# Altium footprint library 高通MSM8916 原理图+PCB Layout_QRD8916_2-4-2_half type_main board_V1.01.PcbLib: 111 footprints (part 1 of 7)
Each footprint in its own frame and in the unit in brackets; x right, y up, seen from the top. Pads: shape width x height; smd on the part's side, far side on the other; paste and mask are expansions set on the pad; w line width, h text height; cw(c..) or ccw(c..) is an arc to the next point about the centre after c.
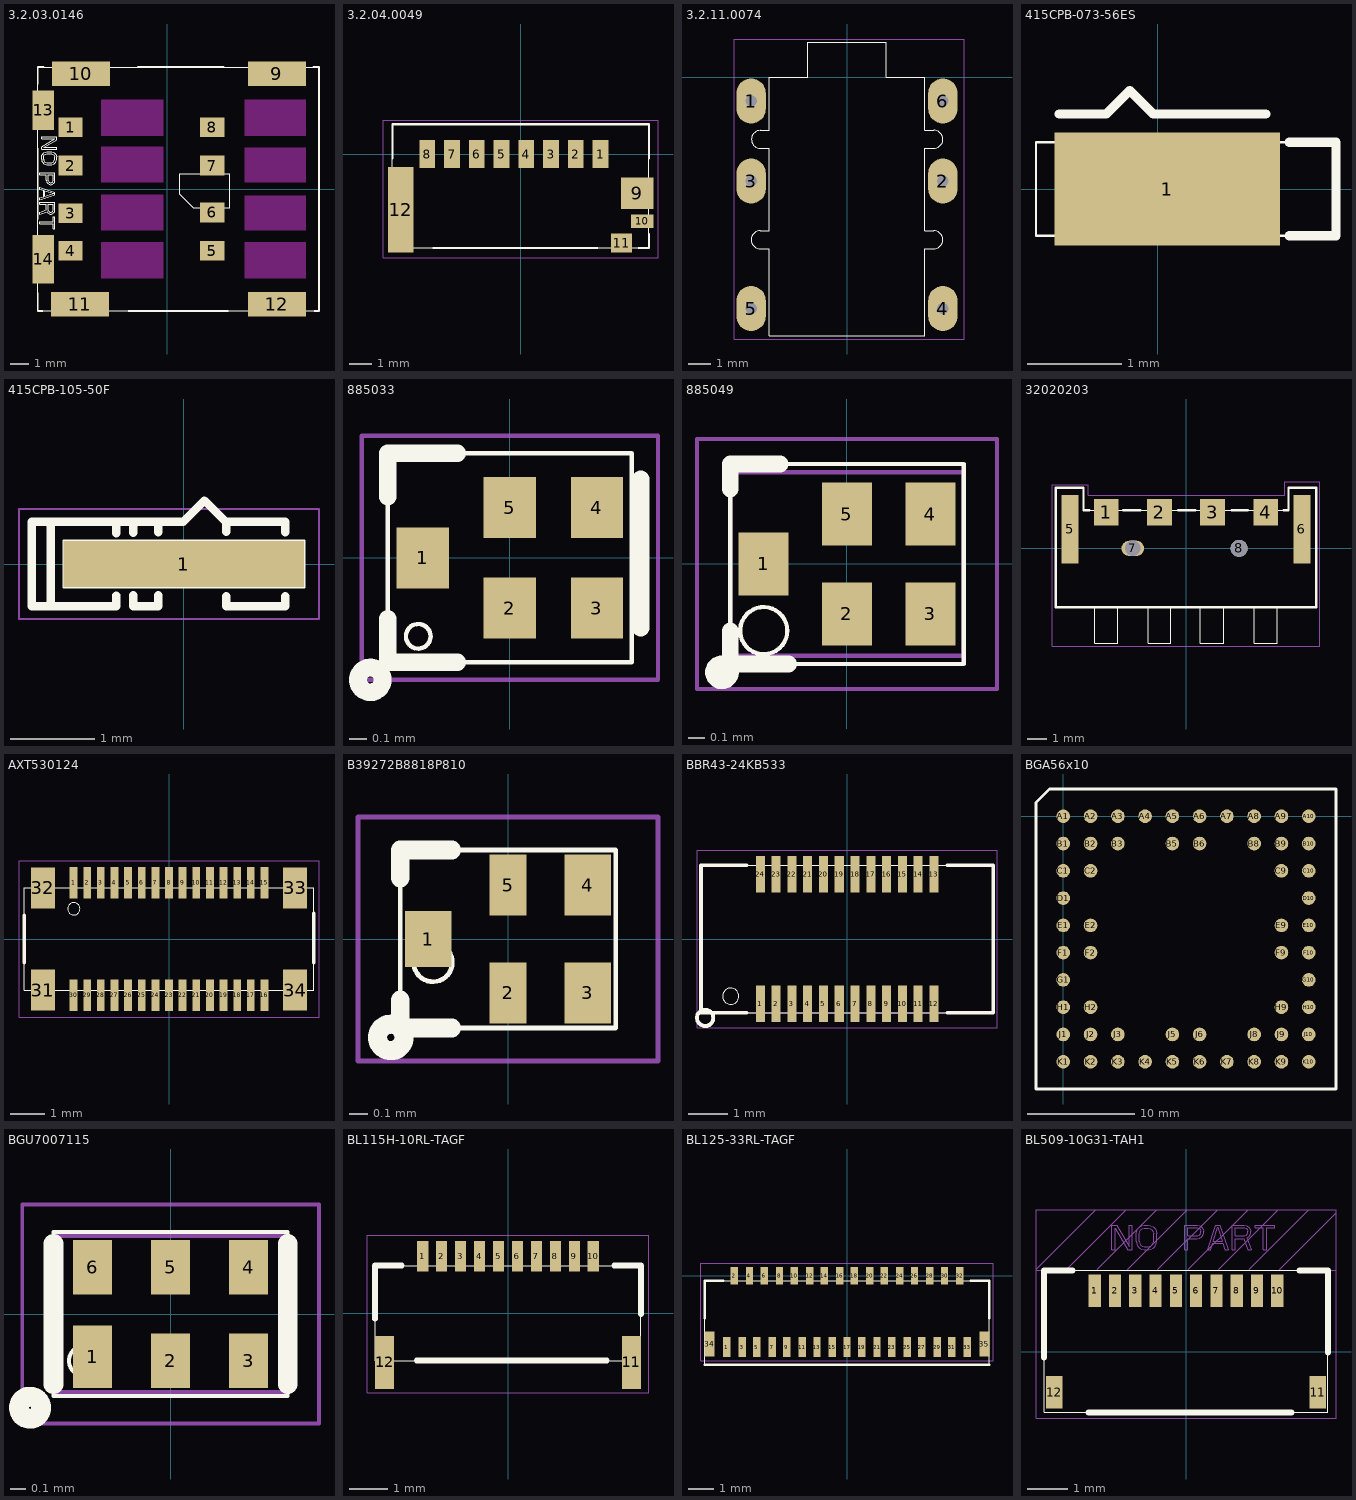
[diagram p0: the footprints below, top view; thin cyan lines are the x and y axes]

## 3.2.03.0146 [mm]
height 1.45
pads (14):
  rect 1.3x1.05 smd paste-0.025 mask+0.05: 1(-5.15,3.3) 2(-5.15,1.25) 3(-5.15,-1.3) 4(-5.15,-3.3) 5(2.4,-3.3) 6(2.4,-1.25) 7(2.4,1.25) 8(2.4,3.3)
  rect 3.1x1.3 smd mask+0.05: 9(5.85,6.15) 10(-4.6,6.15) 11(-4.65,-6.15) 12(5.85,-6.15)
  rect 1.15x2.1 smd mask+0.05: 13(-6.6,4.2)
  rect 1.15x2.6 smd mask+0.05: 14(-6.6,-3.75)
Top Layer keep-out:
  region: -3.5,2.25 -0.2,2.25 -0.2,0.35 -3.5,0.35
  region: -3.5,-0.3 -0.2,-0.3 -0.2,-2.2 -3.5,-2.2
  region: -3.5,-2.85 -0.2,-2.85 -0.2,-4.75 -3.5,-4.75
  region: 4.15,2.2 7.4,2.2 7.4,0.35 4.15,0.35
  region: 4.15,-0.35 7.4,-0.35 7.4,-2.2 4.15,-2.2
  region: 4.15,-2.85 7.4,-2.85 7.4,-4.75 4.15,-4.75
  region: -3.5,4.75 -0.2,4.75 -0.2,2.85 -3.5,2.85
  region: 4.15,4.75 7.4,4.75 7.4,2.85 4.15,2.85
Top Overlay:
  lines w0.025: -6.9,-6.5 -6.9,6.5 8.1,6.5 8.1,-6.5 -6.9,-6.5 ; -6.796,-1.858 -6.073,-1.858 -6.073,-2.128 -5.986,-2.128 -5.986,-1.487 -6.073,-1.487 -6.073,-1.757 -6.796,-1.757 -6.796,-1.858 ; -6.796,-1.352 -6.4,-1.2 -6.366,-1.268 -6.297,-1.318 -6.245,-1.335 -6.176,-1.335 -6.124,-1.318 -6.055,-1.268 -6.004,-1.2 -5.986,-1.116 -5.986,-0.711 -6.796,-0.711 -6.796,-0.812 -6.434,-0.812 -6.434,-1.099 -6.796,-1.234 -6.796,-1.352 ; -6.796,-0.576 -5.986,-0.306 -5.986,-0.171 -6.796,0.099 -6.796,-0.002 -6.59,-0.069 -6.59,-0.407 -6.796,-0.474 -6.796,-0.576 ; -6.796,0.757 -6.434,0.757 -6.434,0.454 -6.417,0.369 -6.366,0.302 -6.297,0.251 -6.245,0.234 -6.176,0.234 -6.124,0.251 -6.055,0.302 -6.004,0.369 -5.986,0.454 -5.986,0.859 -6.796,0.859 -6.796,0.757 ; -6.696,1.574 -6.696,1.709 -6.679,1.793 -6.645,1.861 -6.576,1.928 -6.507,1.962 -6.421,1.979 -6.162,1.979 -6.076,1.962 -6.007,1.928 -5.938,1.861 -5.904,1.793 -5.886,1.709 -5.886,1.574 -5.904,1.489 -5.938,1.422 -6.007,1.354 -6.076,1.321 -6.162,1.304 -6.421,1.304 -6.507,1.321 -6.576,1.354 -6.645,1.422 -6.679,1.489 -6.696,1.574 ; -6.696,2.114 -6.696,2.266 -5.99,2.688 -6.696,2.688 -6.696,2.789 -5.886,2.789 -5.886,2.637 -6.576,2.215 -5.886,2.215 -5.886,2.114 -6.696,2.114 ; -6.593,1.574 -6.593,1.709 -6.576,1.776 -6.541,1.827 -6.49,1.861 -6.421,1.877 -6.162,1.877 -6.093,1.861 -6.041,1.827 -6.007,1.776 -5.99,1.709 -5.99,1.574 -6.007,1.506 -6.041,1.456 -6.093,1.422 -6.162,1.405 -6.421,1.405 -6.49,1.422 -6.541,1.456 -6.576,1.506 -6.593,1.574 ; -6.521,-0.39 -6.055,-0.238 -6.521,-0.086 -6.521,-0.39 ; -6.331,-1.132 -6.314,-1.183 -6.279,-1.217 -6.228,-1.234 -6.176,-1.234 -6.124,-1.217 -6.09,-1.183 -6.073,-1.132 -6.073,-0.812 -6.331,-0.812 -6.331,-1.132 ; -6.331,0.437 -6.314,0.386 -6.279,0.352 -6.228,0.336 -6.176,0.336 -6.124,0.352 -6.09,0.386 -6.073,0.437 -6.073,0.757 -6.331,0.757 -6.331,0.437 ; 0.675,-0.275 1.4,-1 3.35,-1 3.35,0.8 0.675,0.8 0.675,-0.275
  lines w0.1: -6.9,-5.55 -6.9,-6.5 -6.65,-6.5 ; -6.9,-1.6 -6.9,2.15 ; -6.9,5.6 -6.9,6.5 -6.6,6.5 ; -2.05,-6.5 3.25,-6.5 ; -1.55,6.5 3,6.5 ; 7.8,6.5 8.1,6.5 8.1,-6.5 7.85,-6.5

## 3.2.04.0049 [mm]
height 2.5
pads (12):
  rect 0.7x1.25 smd mask+0.05: 1(3.55,0) 2(2.45,0) 3(1.35,0) 4(0.25,0) 5(-0.85,0) 6(-1.95,0) 7(-3.05,0) 8(-4.15,0)
  rect 1.45x1.4 smd mask+0.05: 9(5.18,-1.73)
  rect 1x0.6 smd mask+0.05: 10(5.4,-2.98)
  rect 0.95x0.85 smd mask+0.05: 11(4.48,-3.95)
  rect 1.15x3.8 smd mask+0.05: 12(-5.33,-2.48)
Top Overlay:
  lines w0.025: -5.7,-4.17 5.7,-4.17 5.7,1.33 -5.7,1.33 -5.7,-4.17
  lines w0.1: -5.7,-0.2 -5.7,1.33 5.7,1.33 5.7,-0.2 ; -3.9,-4.17 3.4,-4.17 ; 5.25,-4.17 5.7,-4.17 5.7,-3.55
Top Assembly:
  lines w0.025: -6.1,-4.6 6.1,-4.6 6.1,1.5 -6.1,1.5 -6.1,-4.6

## 3.2.11.0074 [mm]
height 4.2
pads (6):
  oval 1.3x2 / inner oval 0.9x1.6 / far side oval 0.9x1.6 hole 0.5 mask+0.05: 1(-4.25,-1.05) 2(4.25,-4.6) 3(-4.25,-4.6) 4(4.25,-10.25) 5(-4.25,-10.25) 6(4.25,-1.05)
Top Overlay:
  lines w0.025: -3.85,-7.6 cw(c-3.85,-7.2) -3.85,-6.8 -3.45,-6.8 -3.45,-3.15 -3.85,-3.15 cw(c-3.837,-2.75) -3.85,-2.35 -3.45,-2.35 -3.45,0 -1.75,0 -1.75,1.55 1.75,1.55 1.75,0 3.45,0 3.45,-2.35 3.85,-2.35 cw(c3.85,-2.75) 3.85,-3.15 3.45,-3.15 3.45,-6.8 3.85,-6.8 cw(c3.85,-7.2) 3.85,-7.6 3.45,-7.6 3.45,-11.45 -3.45,-11.45 -3.45,-7.6 -3.85,-7.6
Top Paste:
  drawing of 6 lines, arcs and shapes, not listed
Top Assembly:
  lines w0.025: -5,-11.6 5.2,-11.6 5.2,1.7 -5,1.7 -5,-11.6

## 415CPB-073-56ES [mm]
height 2.2
pads (1):
  rect 2.4x1.2 smd: 1(0.1,0)
Top Overlay:
  lines w0.025: -1,0 -0.5,0 -0.25,0.25 0,0 1.2,0 ; -1.3,-0.5 1.9,-0.5 1.9,0.5 -1.3,0.5 -1.3,-0.5
  lines w0.1: -1.05,0.8 -0.55,0.8 -0.3,1.05 -0.05,0.8 1.15,0.8 ; 1.4,-0.5 1.9,-0.5 1.9,0.5 1.4,0.5
Top Paste:
  region: -1.1,-0.6 -0.3,-0.6 -0.3,0.6 -1.1,0.6
  region: 0,0.6 1.3,0.6 1.3,-0.6 0,-0.6
Top Solder:
  region: -1.15,-0.65 -0.25,-0.65 -0.25,0.65 -1.15,0.65
  region: -0.05,0.65 1.35,0.65 1.35,-0.65 -0.05,-0.65

## 415CPB-105-50F [mm]
height 0.1
pads (1):
  rect 2.85x0.55 smd paste-0.025 mask+0.05: 1(0,0)
Top Overlay:
  lines w0.025: -1.275,-0.075 -0.075,-0.075 0.175,0.175 0.425,-0.075 0.925,-0.075 ; -1.425,-0.275 1.425,-0.275 1.425,0.275 -1.425,0.275 -1.425,-0.275
  lines w0.1: -1.575,-0.5 -1.575,0.5 ; -1.205,0.502 -0.005,0.502 0.245,0.752 0.495,0.502 0.995,0.502 ; -0.8,-0.373 -0.8,-0.5 -1.8,-0.5 -1.8,0.5 -0.8,0.5 -0.8,0.366 ; -0.6,-0.372 -0.6,-0.5 -0.3,-0.5 -0.3,-0.37 ; -0.6,0.368 -0.6,0.5 ; -0.3,0.375 -0.3,0.5 ; 0.5,-0.381 0.5,-0.5 1.2,-0.5 1.2,-0.382 ; 0.5,0.38 0.5,0.5 1.2,0.5 1.2,0.376
Top Assembly:
  lines w0.025: -1.95,-0.65 1.6,-0.65 1.6,0.65 -1.95,0.65 -1.95,-0.65

## 885033 [mm]
height 0.5
pads (5):
  rect 0.3x0.35 smd mask+0.05: 1(-0.5,0) 2(0,-0.288) 3(0.5,-0.288) 4(0.5,0.288) 5(0,0.288)
Top Overlay:
  circle w0.102: c-0.8,-0.7 r0.071
  circle w0.025: c-0.525,-0.45 r0.071
  lines w0.025: -0.7,-0.6 -0.7,0.6 0.7,0.6 0.7,-0.6 -0.7,-0.6
  lines w0.1: -0.7,-0.35 -0.7,-0.6 -0.3,-0.6 ; -0.7,0.35 -0.7,0.6 -0.3,0.6 ; 0.75,-0.4 0.75,0.45
Top Assembly:
  lines w0.025: -0.85,-0.7 0.85,-0.7 0.85,0.7 -0.85,0.7 -0.85,-0.7

## 885049 [mm]
height 0.5
pads (5):
  rect 0.3x0.38 smd paste-0.025 mask+0.05: 1(-0.5,0) 2(0,-0.3) 3(0.5,-0.3) 4(0.5,0.3) 5(0,0.3)
Top Overlay:
  circle w0.025: c-0.5,-0.4 r0.141
  circle w0.102: c-0.75,-0.65 r0.05
  lines w0.025: -0.7,-0.6 0.7,-0.6 0.7,0.6 -0.7,0.6 -0.7,-0.6
  lines w0.1: -0.7,-0.4 -0.7,-0.6 -0.35,-0.6 ; -0.7,0.45 -0.7,0.6 -0.4,0.6
Top Assembly:
  lines w0.025: -0.9,-0.75 0.9,-0.75 0.9,0.75 -0.9,0.75 -0.9,-0.75
Mechanical 9:
  lines w0.025: -0.7,-0.55 0.7,-0.55 0.7,0.55 -0.7,0.55 -0.7,-0.55

## 32020203 [mm]
height 4.5
pads (8):
  rect 1.3x1.4 smd mask+0.05: 1(-4.2,1.9) 2(-1.4,1.9) 3(1.4,1.9) 4(4.2,1.9)
  rect 0.9x3.6 smd mask+0.05: 5(-6.1,1) 6(6.1,1)
  oval 1.2x0.8 hole 0.8 unplated: 7(-2.8,0)
  round 0.9 hole 0.9 unplated: 8(2.8,0)
Top Overlay:
  lines w0.025: -6.85,-3.1 -4.8,-3.1 -4.8,-5 -3.6,-5 -3.6,-3.1 -2,-3.1 -2,-5 -0.8,-5 -0.8,-3.1 0.75,-3.1 0.75,-5 2,-5 2,-3.1 3.6,-3.1 3.6,-5 4.8,-5 4.8,-3.1 6.85,-3.1 6.85,3.2 5.4,3.2 5.4,2 -5.4,2 -5.4,3.2 -6.85,3.2 -6.85,-3.1
  lines w0.127: -5.1,2 -5.4,2 -5.4,3.2 -6.85,3.2 -6.85,-3.1 6.85,-3.1 6.85,3.2 5.4,3.2 5.4,2 5.15,2 ; -3.3,2 -2.4,2 ; -0.4,2 0.5,2 ; 2.4,2 3.25,2
Top Assembly:
  lines w0.025: -7.05,-5.15 7.05,-5.15 7.05,3.5 5.2,3.5 5.2,2.8 -5.15,2.8 -5.15,3.35 -7.05,3.35 -7.05,-5.15

## AXT530124 [mm]
height 1.15
pads (34):
  rect 0.23x0.92 smd mask+0.05: 1(-2.8,1.65) 2(-2.4,1.65) 3(-2,1.65) 4(-1.6,1.65) 5(-1.2,1.65) 6(-0.8,1.65) 7(-0.4,1.65) 8(0,1.65) 9(0.4,1.65) 10(0.8,1.65) 11(1.2,1.65) 12(1.6,1.65) 13(2,1.65) 14(2.4,1.65) 15(2.8,1.65) 16(2.8,-1.65) 17(2.4,-1.65) 18(2,-1.65) 19(1.6,-1.65) 20(1.2,-1.65) 21(0.8,-1.65) 22(0.4,-1.65) 23(0,-1.65) 24(-0.4,-1.65) 25(-0.8,-1.65) 26(-1.2,-1.65) 27(-1.6,-1.65) 28(-2,-1.65) 29(-2.4,-1.65) 30(-2.8,-1.65)
  rect 0.7x1.2 smd mask+0.05: 31(-3.7,-1.5) 32(-3.7,1.5) 33(3.7,1.5) 34(3.7,-1.5)
Top Overlay:
  circle w0.025: c-2.79,0.885 r0.18
  lines w0.025: -4.25,-1.5 4.25,-1.5 4.25,1.5 -4.25,1.5 -4.25,-1.5
  lines w0.1: -4.25,-0.7 -4.25,0.7 ; 4.25,-0.7 4.25,0.75
Top Assembly:
  lines w0.025: -4.4,-2.3 4.4,-2.3 4.4,2.3 -4.4,2.3 -4.4,-2.3

## B39272B8818P810 [mm]
height 0.5
pads (5):
  rect 0.25x0.3 smd mask+0.05: 1(-0.425,0)
  rect 0.2x0.325 smd mask+0.05: 2(0,-0.288) 5(0,0.288)
  rect 0.25x0.325 smd mask+0.05: 3(0.425,-0.288) 4(0.425,0.288)
Top Overlay:
  circle w0.025: c-0.4,-0.125 r0.103
  circle w0.102: c-0.625,-0.525 r0.071
  lines w0.025: -0.575,-0.475 0.575,-0.475 0.575,0.475 -0.575,0.475 -0.575,-0.475
  lines w0.1: -0.575,-0.325 -0.575,-0.475 -0.3,-0.475 ; -0.575,0.325 -0.575,0.475 -0.3,0.475
Top Assembly:
  lines w0.025: -0.8,-0.65 0.8,-0.65 0.8,0.65 -0.8,0.65 -0.8,-0.65

## BBR43-24KB533 [mm]
height 1.1
pads (24):
  rect 0.23x0.92 smd mask+0.05: 1(-2.2,-1.64) 2(-1.8,-1.64) 3(-1.4,-1.64) 4(-1,-1.64) 5(-0.6,-1.64) 6(-0.2,-1.64) 7(0.2,-1.64) 8(0.6,-1.64) 9(1,-1.64) 10(1.4,-1.64) 11(1.8,-1.64) 12(2.2,-1.64) 13(2.2,1.64) 14(1.8,1.64) 15(1.4,1.64) 16(1,1.64) 17(0.6,1.64) 18(0.2,1.64) 19(-0.2,1.64) 20(-0.6,1.64) 21(-1,1.64) 22(-1.4,1.64) 23(-1.8,1.64) 24(-2.2,1.64)
Top Overlay:
  circle w0.025: c-2.95,-1.45 r0.206
  circle w0.1: c-3.6,-2 r0.206
  lines w0.025: -3.705,-1.87 3.705,-1.87 3.705,1.87 -3.705,1.87 -3.705,-1.87
  lines w0.1: -2.55,-1.87 -3.705,-1.87 -3.705,1.87 -2.55,1.87 ; 2.55,-1.87 3.705,-1.87 3.705,1.87 2.55,1.87
Top Assembly:
  lines w0.025: -3.8,-2.25 3.8,-2.25 3.8,2.25 -3.8,2.25 -3.8,-2.25
Mechanical 9:
  lines w0.025: -3.705,-1.87 3.705,-1.87 3.705,1.87 -3.705,1.87 -3.705,-1.87

## BGA56x10 [mm]
pads (56):
  round 1.27 smd: A1(0,0) A2(2.54,0) A3(5.08,0) A4(7.62,0) A5(10.16,0) A6(12.7,0) A7(15.24,0) A8(17.78,0) A9(20.32,0) A10(22.86,0) B1(0,-2.54) B2(2.54,-2.54) B3(5.08,-2.54) B5(10.16,-2.54) B6(12.7,-2.54) B8(17.78,-2.54) B9(20.32,-2.54) B10(22.86,-2.54) C1(0,-5.08) C2(2.54,-5.08) C9(20.32,-5.08) C10(22.86,-5.08) D1(0,-7.62) D10(22.86,-7.62) E1(0,-10.16) E2(2.54,-10.16) E9(20.32,-10.16) E10(22.86,-10.16) F1(0,-12.7) F2(2.54,-12.7) F9(20.32,-12.7) F10(22.86,-12.7) G1(0,-15.24) G10(22.86,-15.24) H1(0,-17.78) H2(2.54,-17.78) H9(20.32,-17.78) H10(22.86,-17.78) J1(0,-20.32) J2(2.54,-20.32) J3(5.08,-20.32) J5(10.16,-20.32) J6(12.7,-20.32) J8(17.78,-20.32) J9(20.32,-20.32) J10(22.86,-20.32) K1(0,-22.86) K2(2.54,-22.86) K3(5.08,-22.86) K4(7.62,-22.86) K5(10.16,-22.86) K6(12.7,-22.86) K7(15.24,-22.86) K8(17.78,-22.86) K9(20.32,-22.86) K10(22.86,-22.86)
Top Overlay:
  lines w0.254: -2.54,-25.4 -2.54,1.27 -1.27,2.54 25.4,2.54 25.4,-25.4 -2.54,-25.4

## BGU7007115 [mm]
height 0.5
pads (6):
  rect 0.25x0.4 smd mask+0.05: 1(-0.5,-0.275)
  rect 0.25x0.35 smd mask+0.05: 2(0,-0.3) 3(0.5,-0.3) 4(0.5,0.3) 5(0,0.3) 6(-0.5,0.3)
Top Overlay:
  circle w0.025: c-0.55,-0.3 r0.1
  circle w0.127: c-0.9,-0.6 r0.071
  lines w0.025: -0.75,-0.525 0.75,-0.525 0.75,0.525 -0.75,0.525 -0.75,-0.525
  lines w0.127: -0.75,-0.45 -0.75,0.45 ; 0.75,-0.45 0.75,0.45
Top Assembly:
  lines w0.025: -0.95,-0.7 0.95,-0.7 0.95,0.7 -0.95,0.7 -0.95,-0.7
Mechanical 9:
  lines w0.025: -0.75,-0.5 0.75,-0.5 0.75,0.5 -0.75,0.5 -0.75,-0.5

## BL115H-10RL-TAGF [mm]
height 1
pads (12):
  rect 0.3x0.8 smd mask+0.05: 1(-2.25,1.5) 2(-1.75,1.5) 3(-1.25,1.5) 4(-0.75,1.5) 5(-0.25,1.5) 6(0.25,1.5) 7(0.75,1.5) 8(1.25,1.5) 9(1.75,1.5) 10(2.25,1.5)
  rect 0.5x1.4 smd paste-0.05 mask+0.05: 11(3.25,-1.3) 12(-3.25,-1.3)
Top Overlay:
  lines w0.025: -3.5,-1.25 3.5,-1.25 3.5,1.25 -3.5,1.25 -3.5,-1.25
  lines w0.15: -3.5,-0.15 -3.5,1.25 -2.8,1.25 ; -2.4,-1.25 2.6,-1.25 ; 2.8,1.25 3.5,1.25 3.5,-0.025
Top Assembly:
  lines w0.025: -3.7,-2.1 3.7,-2.1 3.7,2.05 -3.7,2.05 -3.7,-2.1

## BL125-33RL-TAGF [mm]
height 1
pads (35):
  rect 0.3x0.8 smd paste-0.05 mask+0.05: 1(-4.8,-2.85) 3(-4.2,-2.85) 5(-3.6,-2.85) 7(-3,-2.85) 9(-2.4,-2.85) 11(-1.8,-2.85) 13(-1.2,-2.85) 15(-0.6,-2.85) 17(0,-2.85) 19(0.6,-2.85) 21(1.2,-2.85) 23(1.8,-2.85) 25(2.4,-2.85) 27(3,-2.85) 29(3.6,-2.85) 31(4.2,-2.85) 33(4.8,-2.85)
  rect 0.3x0.7 smd paste-0.05 mask+0.05: 2(-4.5,0) 4(-3.9,0) 6(-3.3,0) 8(-2.7,0) 10(-2.1,0) 12(-1.5,0) 14(-0.9,0) 16(-0.3,0) 18(0.3,0) 20(0.9,0) 22(1.5,0) 24(2.1,0) 26(2.7,0) 28(3.3,0) 30(3.9,0) 32(4.5,0)
  rect 0.4x1 smd paste-0.05 mask+0.05: 34(-5.5,-2.725) 35(5.5,-2.725)
Top Overlay:
  lines w0.025: -5.7,-3.55 5.7,-3.55 5.7,-0.2 -5.7,-0.2 -5.7,-3.55
  lines w0.1: -5.7,-3.55 5.7,-3.55 ; -5.7,-1.7 -5.7,-0.2 -4.95,-0.2 ; 4.95,-0.2 5.7,-0.2 5.7,-1.7
Top Assembly:
  lines w0.025: -5.85,-3.4 -5.85,0.5 5.85,0.5 5.85,-3.4 -5.85,-3.4

## BL509-10G31-TAH1 [mm]
height 1
pads (12):
  rect 0.3x0.8 smd mask+0.05: 1(-2.25,1.5) 2(-1.75,1.5) 3(-1.25,1.5) 4(-0.75,1.5) 5(-0.25,1.5) 6(0.25,1.5) 7(0.75,1.5) 8(1.25,1.5) 9(1.75,1.5) 10(2.25,1.5)
  rect 0.4x0.8 smd mask+0.05: 11(3.25,-1) 12(-3.25,-1)
Top Overlay:
  lines w0.025: -3.5,-1.5 3.5,-1.5 3.5,2 -3.5,2 -3.5,-1.5
  lines w0.15: -3.5,-0.15 -3.5,2 -2.8,2 ; -2.4,-1.5 2.6,-1.5 ; 2.8,2 3.5,2 3.5,-0.025
Top Assembly:
  lines w0.025: -3.7,2 3.7,2 ; -3.691,2.024 -2.22,3.495 ; -2.941,2.024 -1.47,3.495 ; -2.191,2.024 -0.72,3.495 ; -1.441,2.024 0.03,3.495 ; -0.691,2.024 0.78,3.495 ; 0.059,2.024 1.53,3.495 ; 0.809,2.024 2.28,3.495 ; 1.559,2.024 3.03,3.495 ; 2.309,2.024 3.698,3.413 ; -3.7,-1.65 3.7,-1.65 3.7,3.5 -3.7,3.5 -3.7,-1.65 ; -1.826,2.512 -1.751,2.512 -1.751,3.035 -1.439,2.512 -1.326,2.512 -1.326,3.112 -1.401,3.112 -1.401,2.601 -1.714,3.112 -1.826,3.112 -1.826,2.512 ; -1.226,2.716 -1.226,2.908 -1.214,2.972 -1.189,3.023 -1.139,3.074 -1.089,3.099 -1.026,3.112 -0.926,3.112 -0.864,3.099 -0.814,3.074 -0.764,3.023 -0.739,2.972 -0.726,2.908 -0.726,2.716 -0.739,2.652 -0.764,2.601 -0.814,2.55 -0.864,2.525 -0.926,2.512 -1.026,2.512 -1.089,2.525 -1.139,2.55 -1.189,2.601 -1.214,2.652 -1.226,2.716 ; -1.151,2.716 -1.151,2.908 -1.139,2.959 -1.114,2.997 -1.076,3.023 -1.026,3.035 -0.926,3.035 -0.876,3.023 -0.839,2.997 -0.814,2.959 -0.801,2.908 -0.801,2.716 -0.814,2.665 -0.839,2.627 -0.876,2.601 -0.926,2.589 -1.026,2.589 -1.076,2.601 -1.114,2.627 -1.139,2.665 -1.151,2.716 ; -0.026,2.512 0.049,2.512 0.049,2.78 0.274,2.78 0.336,2.793 0.386,2.831 0.424,2.882 0.436,2.92 0.436,2.972 0.424,3.01 0.386,3.061 0.336,3.099 0.274,3.112 -0.026,3.112 -0.026,2.512 ; 0.049,2.857 0.049,3.048 0.286,3.048 0.324,3.035 0.349,3.01 0.361,2.972 0.361,2.933 0.349,2.895 0.324,2.869 0.286,2.857 0.049,2.857 ; 0.536,2.512 0.611,2.512 0.661,2.665 0.911,2.665 0.961,2.512 1.036,2.512 0.836,3.112 0.736,3.112 0.536,2.512 ; 0.674,2.716 0.786,3.061 0.899,2.716 0.674,2.716 ; 1.136,2.512 1.211,2.512 1.211,2.78 1.424,2.78 1.524,2.512 1.611,2.512 1.499,2.806 1.549,2.831 1.586,2.882 1.599,2.92 1.599,2.972 1.586,3.01 1.549,3.061 1.499,3.099 1.436,3.112 1.136,3.112 1.136,2.512 ; 1.211,2.857 1.211,3.048 1.449,3.048 1.486,3.035 1.511,3.01 1.524,2.972 1.524,2.933 1.511,2.895 1.486,2.869 1.449,2.857 1.211,2.857 ; 1.711,3.048 1.711,3.112 2.186,3.112 2.186,3.048 1.986,3.048 1.986,2.512 1.911,2.512 1.911,3.048 1.711,3.048